# EAGLE library part CON12 (library ArduinoPB-Pro-Mini)
8-pin Thru-hole Header
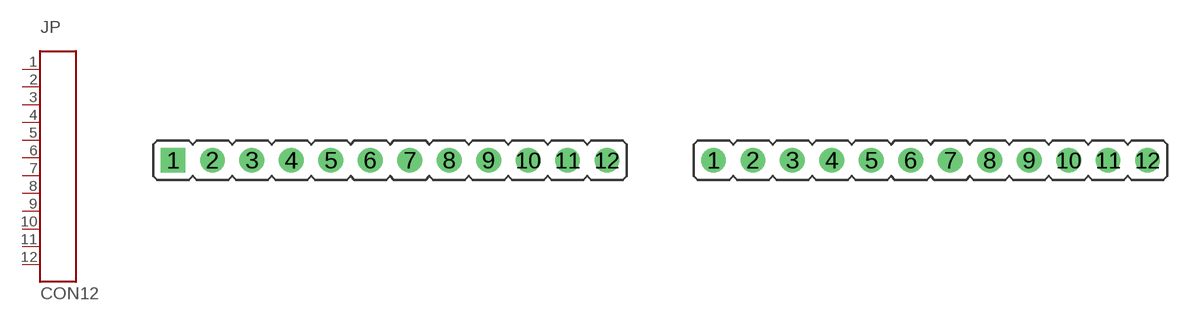
[diagram p1: symbol with the pads of 1X12; footprints 1X12, 1X12C]

Designator prefix JP

## CON12  [1X12]
1  1
2  2
3  3
4  4
5  5
6  6
7  7
8  8
9  9
10  10
11  11
12  12

## CON12C  [1X12C]
Pads as for 1X12

## Footprint 1X12 (pad centres in mm)
JUMPER
drill 1.067 square: 1 0,0
drill 1.067: 2 2.54,0; 3 5.08,0; 4 7.62,0; 5 10.16,0; 6 12.7,0; 7 15.24,0; 8 17.78,0; 9 20.32,0; 10 22.86,0; 11 25.4,0; 12 27.94,0

## Footprint 1X12C (pad centres in mm)
JUMPER
drill 1.067: 1 0,0; 2 2.54,0; 3 5.08,0; 4 7.62,0; 5 10.16,0; 6 12.7,0; 7 15.24,0; 8 17.78,0; 9 20.32,0; 10 22.86,0; 11 25.4,0; 12 27.94,0